# EAGLE library part ICL7650SCPD (library Intersil_By_element14_Batch_1)
Operational Amplifier
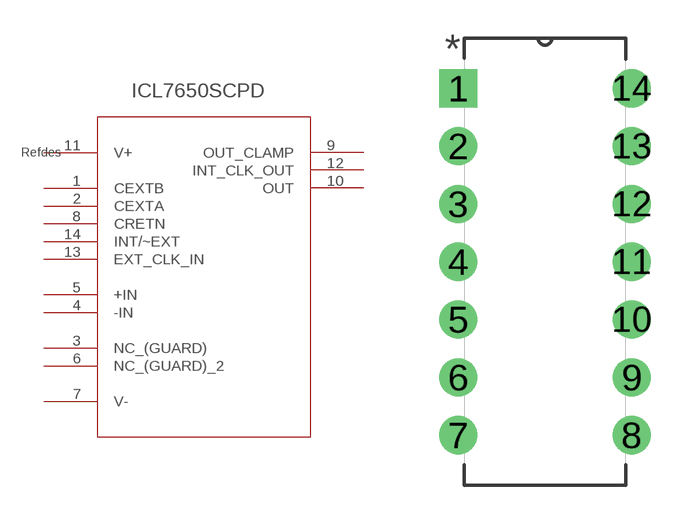
[diagram p180: symbol with the pads of DIP254P762X533-14; footprint DIP254P762X533-14]

Designator prefix U

## ICL7650SCPD (MPN: ICL7650SCPD; OC_FARNELL: -; OC_NEWARK: 06F7431; PACKAGE: PDIP-14; SUPPLIER: Intersil)  [DIP254P762X533-14]
1  CEXTB  pas
2  CEXTA  pas
3  NC_(GUARD)  nc
4  -IN  in
5  +IN  in
6  NC_(GUARD)_2  nc
7  V-  pwr
8  CRETN  pas
9  OUT_CLAMP  out
10  OUT  out
11  V+  pwr
12  INT_CLK_OUT  out
13  EXT_CLK_IN  in
14  INT/~EXT  pas

## Footprint DIP254P762X533-14 (pad centres in mm)
drill 1.118 square: 1 -7.62,15.24
drill 1.118: 2 -7.62,12.7; 3 -7.62,10.16; 4 -7.62,7.62; 5 -7.62,5.08; 6 -7.62,2.54; 7 -7.62,0; 8 0,0; 9 0,2.54; 10 0,5.08; 11 0,7.62; 12 0,10.16; 13 0,12.7; 14 0,15.24